# Altium schematic symbol library lib_common.SchLib: 10 symbols
Pins are listed as number, name and electrical type; pins without a type are passive.

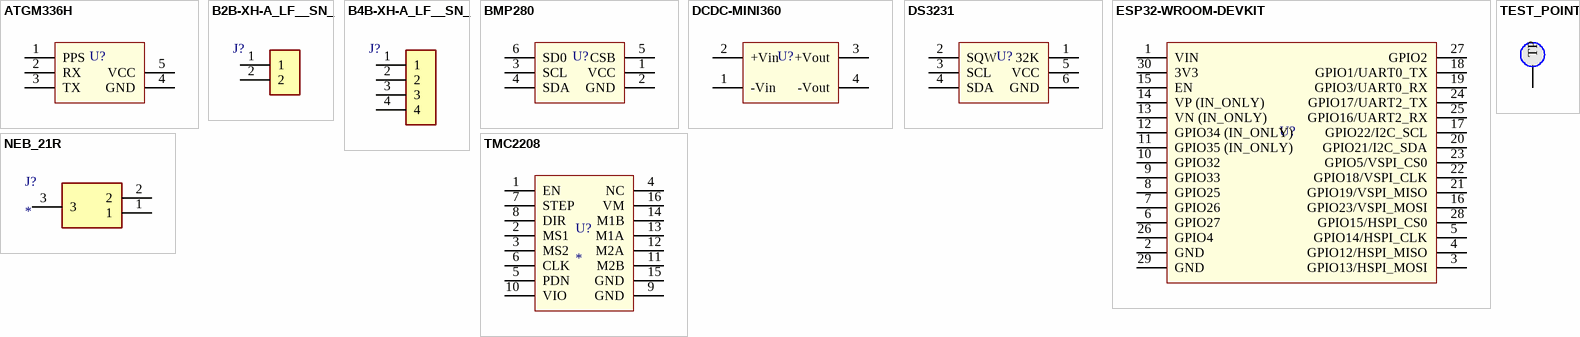
[diagram p0: symbols ATGM336H to TMC2208]

## ATGM336H
designator U?  (value not drawn)
footprint ATGM336H
pins: 1 PPS, 2 RX, 3 TX, 4 GND, 5 VCC

## B2B-XH-A_LF__SN_
designator J?  (value not drawn)
Connector; Manufacturer_Name: JST (JAPAN SOLDERLESS TERMINALS); Manufacturer_Part_Number: B2B-XH-A(LF)(SN); Datasheet Link: http://www.jst-mfg.com/product/pdf/eng/eXH.pdf; Height: 7mm; Arrow Part Number: B2B-XH-A(LF)(SN); Arrow Price/Stock: https://www.arrow.com/en/products/b2b-xh-a-lf-sn/jst-manufacturing?region=europe
footprint B2BXHALFSN
pins: 1, 2

## B4B-XH-A_LF__SN_
designator J?  (value not drawn)
Connector; Manufacturer_Name: JST (JAPAN SOLDERLESS TERMINALS); Manufacturer_Part_Number: B4B-XH-A(LF)(SN); Datasheet Link: https://datasheet.lcsc.com/szlcsc/JST-Sales-America-B4B-XH-A-LF-SN_C144395.pdf; Height: 7mm; Arrow Part Number: B4B-XH-A(LF)(SN); Arrow Price/Stock: https://www.arrow.com/en/products/b4b-xh-a-lf-sn/jst-manufacturing
footprint B4BXHALFSN
footprint B4BXHALFSN-V
footprint p4
pins: 1, 2, 3, 4

## BMP280
designator U?  (value not drawn)
footprint BMP280
pins: 1 VCC, 2 GND, 3 SCL, 4 SDA, 5 CSB, 6 SD0

## DCDC-MINI360
designator U?  (value not drawn)
footprint DCDC-MINI360
pins: 1 -Vin, 2 +Vin, 3 +Vout, 4 -Vout

## DS3231
designator U?  (value not drawn)
footprint DS3231
pins: 1 32K, 2 SQW, 3 SCL, 4 SDA, 5 VCC, 6 GND

## ESP32-WROOM-DEVKIT
designator U?  (value not drawn)
ESP32-WROOM-DEVKIT
footprint ESP32-WROOM-DEVKIT
pins: 1 VIN, 2 GND, 3 GPIO13/HSPI_MOSI, 4 GPIO12/HSPI_MISO, 5 GPIO14/HSPI_CLK, 6 GPIO27, 7 GPIO26, 8 GPIO25, 9 GPIO33, 10 GPIO32, 11 GPIO35 (IN_ONLY), 12 GPIO34 (IN_ONLY), 13 VN (IN_ONLY), 14 VP (IN_ONLY), 15 EN, 16 GPIO23/VSPI_MOSI, 17 GPIO22/I2C_SCL, 18 GPIO1/UART0_TX, 19 GPIO3/UART0_RX, 20 GPIO21/I2C_SDA, 21 GPIO19/VSPI_MISO, 22 GPIO18/VSPI_CLK, 23 GPIO5/VSPI_CS0, 24 GPIO17/UART2_TX, 25 GPIO16/UART2_RX, 26 GPIO4, 27 GPIO2, 28 GPIO15/HSPI_CS0, 29 GND, 30 3V3

## NEB_21R
designator J?
Connector; Manufacturer_Name: LUMBERG; Manufacturer_Part_Number: NEB+21+R; Datasheet Link: https://downloads.lumberg.com/datenblaetter/en/neb21r.pdf; Height: 11mm
footprint NEB21R
pins: 1, 2, 3

## TEST_POINT
designator TP?  (value not drawn)
footprint TEST_POINT
pins: 1 TP

## TMC2208
designator U?
footprint TMC22xx
pins: 1 EN, 2 MS1, 3 MS2, 4 NC, 5 PDN, 6 CLK, 7 STEP, 8 DIR, 9 GND, 10 VIO, 11 M2B, 12 M2A, 13 M1A, 14 M1B, 15 GND, 16 VM